# EAGLE library part HIH8131-021-001 (library HIH8131-021-001)
Humidity/Temperature Sensor Digital Serial (I2C) 8-Pin SOIC T/R Source: Datasheet <https://www.mouser.co.uk/datasheet/2/187/hih8000-datasheet-009075-7-en-1140826.pdf>
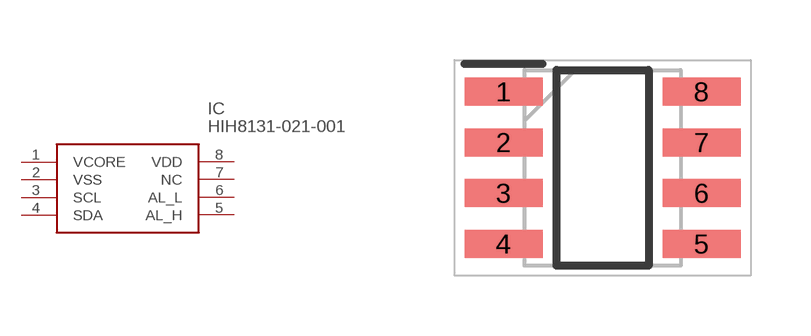
[diagram p0: symbol with the pads of SOIC127P600X206-8N; footprint SOIC127P600X206-8N]

Designator prefix IC

## HIH8131-021-001 (Arrow_Part_Number: HIH8131-021-001; Arrow_Price-Stock: https://www.arrow.com/en/products/hih8131-021-001/honeywell; Description: Humidity/Temperature Sensor Digital Serial (I2C) 8-Pin SOIC T/R; Height: 2.055mm; Manufacturer_Name: Honeywell; Manufacturer_Part_Number: HIH8131-021-001; Mouser_Part_Number: 785-HIH8131-021-001; Mouser_Price-Stock: https://www.mouser.co.uk/ProductDetail/Honeywell/HIH8131-021-001?qs=jvB%252BdWhGd42knJA7wHeNmQ%3D%3D)  [SOIC127P600X206-8N]
1  VCORE
2  VSS
3  SCL
4  SDA
5  AL_H
6  AL_L
7  NC  nc
8  VDD

## Footprint SOIC127P600X206-8N (pad centres in mm)
SOIC-8 SMD
smd 1.95 x 0.7: 1 -2.475,1.905; 2 -2.475,0.635; 3 -2.475,-0.635; 4 -2.475,-1.905; 5 2.475,-1.905; 6 2.475,-0.635; 7 2.475,0.635; 8 2.475,1.905